# Altium schematic symbol library Holder,Cell,CR2032,PCB,SMD.Schlib: 1 symbol
Pins are listed as number, name and electrical type; pins without a type are passive.

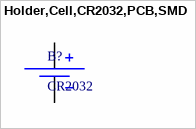
[diagram p0: symbol Holder,Cell,CR2032,PCB,SMD]

## Holder,Cell,CR2032,PCB,SMD
designator B?, comment CR2032
Battery Retainer Coin, 20.0mm 1 Cell SMD (SMT) Tab
pins: 1 BATT_P, 2 BATT_N